# Altium schematic symbol library Schlib1.SchLib: 16 symbols
Pins are listed as number, name and electrical type; pins without a type are passive.

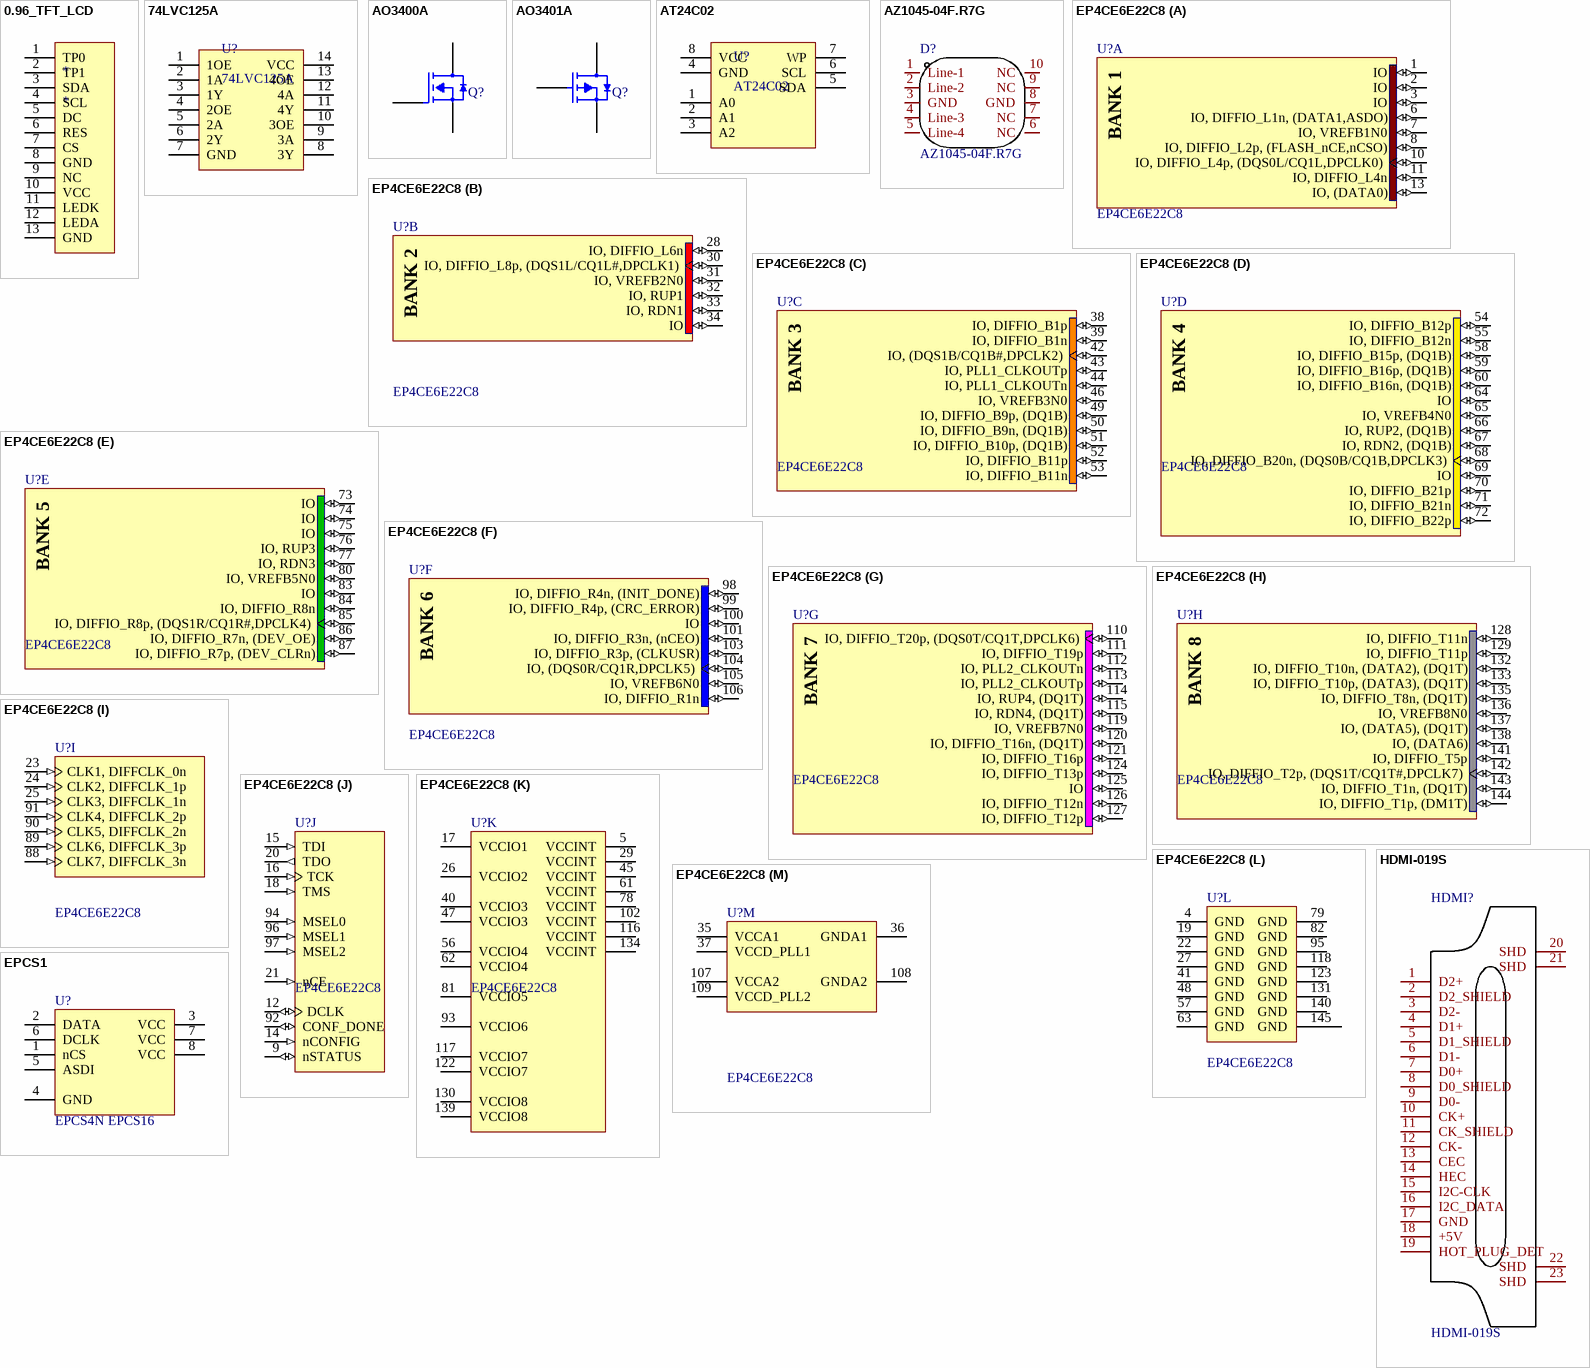
[diagram p0: symbols 0.96_TFT_LCD to HDMI-019S]

## 0.96_TFT_LCD
designator *
footprint 0.78_TFT_LCD
pins: 1 TP0, 2 TP1, 3 SDA, 4 SCL, 5 DC, 6 RES, 7 CS, 8 GND, 9 NC, 10 VCC, 11 LEDK, 12 LEDA, 13 GND

## 74LVC125A
designator U?
footprint TSSOP14_N (5*6.4*1mm（长宽高）)
pins: 1 1OE, 2 1A, 3 1Y, 4 2OE, 5 2A, 6 2Y, 7 GND, 8 3Y, 9 3A, 10 3OE, 11 4Y, 12 4A, 13 4OE, 14 VCC

## AO3400A
designator Q?  (value not drawn)
N-MOS
footprint SOT23-3 (SOT23, 3-Leads, Body 3.1x3.0mm (max), Pitch 0.95mm, IPC Medium Density)
pins: 1 G, 2 S, 3 D

## AO3401A
designator Q?  (value not drawn)
P-MOS
footprint SOT23-3 (SOT23, 3-Leads, Body 3.1x3.0mm (max), Pitch 0.95mm, IPC Medium Density)
pins: 1 G, 2 S, 3 D

## AT24C02
designator U?
footprint SOP8_N (5*6*1.8mm（长宽高）)
pins: 1 A0, 2 A1, 3 A2, 4 GND, 5 SDA, 6 SCL, 7 WP, 8 VCC

## AZ1045-04F.R7G
designator D?
反向截止电压(Vrwm):5V;击穿电压:6V;最大钳位电压:12V;; Manufacturer: AMAZING(晶焱); Add into BOM: yes; Reverse Stand-Off Voltage (Vrwm): 5V; Breakdown Voltage: 6V; Peak Pulse Current (Ipp)@10/1000μs: 3.5A@8/20us; Maximum Clamping Voltage: 12V; Symbol: AZ1045-04F.R7G; Device: AZ1045-04F.R7G; LCSC Part Name: AZ1045-04F.R7G; Supplier Part: C356811; Manufacturer Part: AZ1045-04F.R7G; Supplier Footprint: DFN-10(1x2.5); JLCPCB Part Class: Extended Part; Datasheet: https://atta.szlcsc.com/upload/public/pdf/source/20190802/C356811_0B9EAE80F3B7F983A0CAF91AEAB45A28.pdf; Supplier: LCSC; Convert to PCB: yes; Name: AZ1045-04F.R7G
footprint DFN2510-10_L2.5-W1.0-P0.50-BL
pins: 1 Line-1, 2 Line-2, 3 GND, 4 Line-3, 5 Line-4, 6 NC, 7 NC, 8 GND, 9 NC, 10 NC

## EP4CE6E22C8
designator U?
Cyclone IV Family FPGA, 2V Core, 91 I/O Pins, 2 PLLs, 144-Pin QFP, Speed Grade 8, Commercial Grade; Published: 3-May-2010; DatasheetVersion: ver1.2, Mar-2010; PackageVersion: ver16.0, Dec-2009; PackageReference: EQFP144; Publisher: Altium Limited; PackageDescription: 144-Pin Plastic Enhanced Quad Flat Pack (EQFP144) - Wire Bond; Code_JEDEC: MS-026-BFB; ComponentLink1Description: Manufacturer Link; ComponentLink1URL: http://www.altera.com/; ComponentLink2Description: Handbook; ComponentLink2URL: http://www.altera.com/literature/hb/cyclone-iv/cyclone4-handbook.pdf; ComponentLink3Description: Pinout Specification; ComponentLink3URL: http://www.altera.com/literature/lit-dp.jsp?category=cyc%204&showspreadsheet=y; ComponentLink4Description: Packaging Specification; ComponentLink4URL: http://www.altera.com/literature/ds/dspkg.pdf
footprint EQFP144 20X20_N (144脚，体宽20x20mm，脚距0.5mm)
part A pins: 1 IO (io), 2 IO (io), 3 IO (io), 6 IO, DIFFIO_L1n, (DATA1,ASDO) (io), 7 IO, VREFB1N0 (io), 8 IO, DIFFIO_L2p, (FLASH_nCE,nCSO) (io), 10 IO, DIFFIO_L4p, (DQS0L/CQ1L,DPCLK0) (io), 11 IO, DIFFIO_L4n (io), 13 IO, (DATA0) (io)
part B pins: 28 IO, DIFFIO_L6n (io), 30 IO, DIFFIO_L8p, (DQS1L/CQ1L#,DPCLK1) (io), 31 IO, VREFB2N0 (io), 32 IO, RUP1 (io), 33 IO, RDN1 (io), 34 IO (io)
part C pins: 38 IO, DIFFIO_B1p (io), 39 IO, DIFFIO_B1n (io), 42 IO, (DQS1B/CQ1B#,DPCLK2) (io), 43 IO, PLL1_CLKOUTp (io), 44 IO, PLL1_CLKOUTn (io), 46 IO, VREFB3N0 (io), 49 IO, DIFFIO_B9p, (DQ1B) (io), 50 IO, DIFFIO_B9n, (DQ1B) (io), 51 IO, DIFFIO_B10p, (DQ1B) (io), 52 IO, DIFFIO_B11p (io), 53 IO, DIFFIO_B11n (io)
part D pins: 54 IO, DIFFIO_B12p (io), 55 IO, DIFFIO_B12n (io), 58 IO, DIFFIO_B15p, (DQ1B) (io), 59 IO, DIFFIO_B16p, (DQ1B) (io), 60 IO, DIFFIO_B16n, (DQ1B) (io), 64 IO (io), 65 IO, VREFB4N0 (io), 66 IO, RUP2, (DQ1B) (io), 67 IO, RDN2, (DQ1B) (io), 68 IO, DIFFIO_B20n, (DQS0B/CQ1B,DPCLK3) (io), 69 IO (io), 70 IO, DIFFIO_B21p (io), 71 IO, DIFFIO_B21n (io), 72 IO, DIFFIO_B22p (io)
part E pins: 73 IO (io), 74 IO (io), 75 IO (io), 76 IO, RUP3 (io), 77 IO, RDN3 (io), 80 IO, VREFB5N0 (io), 83 IO (io), 84 IO, DIFFIO_R8n (io), 85 IO, DIFFIO_R8p, (DQS1R/CQ1R#,DPCLK4) (io), 86 IO, DIFFIO_R7n, (DEV_OE) (io), 87 IO, DIFFIO_R7p, (DEV_CLRn) (io)
part F pins: 98 IO, DIFFIO_R4n, (INIT_DONE) (io), 99 IO, DIFFIO_R4p, (CRC_ERROR) (io), 100 IO (io), 101 IO, DIFFIO_R3n, (nCEO) (io), 103 IO, DIFFIO_R3p, (CLKUSR) (io), 104 IO, (DQS0R/CQ1R,DPCLK5) (io), 105 IO, VREFB6N0 (io), 106 IO, DIFFIO_R1n (io)
part G pins: 110 IO, DIFFIO_T20p, (DQS0T/CQ1T,DPCLK6) (io), 111 IO, DIFFIO_T19p (io), 112 IO, PLL2_CLKOUTn (io), 113 IO, PLL2_CLKOUTp (io), 114 IO, RUP4, (DQ1T) (io), 115 IO, RDN4, (DQ1T) (io), 119 IO, VREFB7N0 (io), 120 IO, DIFFIO_T16n, (DQ1T) (io), 121 IO, DIFFIO_T16p (io), 124 IO, DIFFIO_T13p (io), 125 IO (io), 126 IO, DIFFIO_T12n (io), 127 IO, DIFFIO_T12p (io)
part H pins: 128 IO, DIFFIO_T11n (io), 129 IO, DIFFIO_T11p (io), 132 IO, DIFFIO_T10n, (DATA2), (DQ1T) (io), 133 IO, DIFFIO_T10p, (DATA3), (DQ1T) (io), 135 IO, DIFFIO_T8n, (DQ1T) (io), 136 IO, VREFB8N0 (io), 137 IO, (DATA5), (DQ1T) (io), 138 IO, (DATA6) (io), 141 IO, DIFFIO_T5p (io), 142 IO, DIFFIO_T2p, (DQS1T/CQ1T#,DPCLK7) (io), 143 IO, DIFFIO_T1n, (DQ1T) (io), 144 IO, DIFFIO_T1p, (DM1T) (io)
part I pins: 23 CLK1, DIFFCLK_0n (in), 24 CLK2, DIFFCLK_1p (in), 25 CLK3, DIFFCLK_1n (in), 88 CLK7, DIFFCLK_3n (in), 89 CLK6, DIFFCLK_3p (in), 90 CLK5, DIFFCLK_2n (in), 91 CLK4, DIFFCLK_2p (in)
part J pins: 9 nSTATUS (io), 12 DCLK (io), 14 nCONFIG (in), 15 TDI (in), 16 TCK (in), 18 TMS (in), 20 TDO (out), 21 nCE (in), 92 CONF_DONE (io), 94 MSEL0 (in), 96 MSEL1 (in), 97 MSEL2 (in)
part K pins: 5 VCCINT (power), 17 VCCIO1 (power), 26 VCCIO2 (power), 29 VCCINT (power), 40 VCCIO3 (power), 45 VCCINT (power), 47 VCCIO3 (power), 56 VCCIO4 (power), 61 VCCINT (power), 62 VCCIO4 (power), 78 VCCINT (power), 81 VCCIO5 (power), 93 VCCIO6 (power), 102 VCCINT (power), 116 VCCINT (power), 117 VCCIO7 (power), 122 VCCIO7 (power), 130 VCCIO8 (power), 134 VCCINT (power), 139 VCCIO8 (power)
part L pins: 4 GND (power), 19 GND (power), 22 GND (power), 27 GND (power), 41 GND (power), 48 GND (power), 57 GND (power), 63 GND (power), 79 GND (power), 82 GND (power), 95 GND (power), 118 GND (power), 123 GND (power), 131 GND (power), 140 GND (power), 145 GND
part M pins: 35 VCCA1 (power), 36 GNDA1 (power), 37 VCCD_PLL1 (power), 107 VCCA2 (power), 108 GNDA2 (power), 109 VCCD_PLL2 (power)
part A text: BANK 1
part B text: BANK 2
part C text: BANK 3
part D text: BANK 4
part E text: BANK 5
part F text: BANK 6
part G text: BANK 7
part H text: BANK 8

## EPCS1
designator U?, comment EPCS4N EPCS16
footprint SOP8_M (5*6*1.8mm（长宽高）)
pins: 1 nCS, 2 DATA, 3 VCC, 4 GND, 5 ASDI, 6 DCLK, 7 VCC, 8 VCC

## HDMI-019S
designator HDMI?
连接器类型:HDMI;公母:母;总PIN位数:19;排数:-;安装方式:卧贴;额定电流:500mA;工作温度范围:-25℃~+75℃;; Manufacturer: SOFNG(硕方); Add into BOM: yes; Connector Type: HDMI; Gender: 母; Current Rating (Max): 500mA; Symbol: HDMI-019S; Device: HDMI-019S; LCSC Part Name: HDMI 母 P数:19; Supplier Part: C111617; Manufacturer Part: HDMI-019S; Supplier Footprint: SMD; JLCPCB Part Class: Extended Part; Datasheet: https://atta.szlcsc.com/upload/public/pdf/source/20200911/C111617_84DD1BD35B9EB8A28224A63520745D0A.pdf; Supplier: LCSC; Convert to PCB: yes; Number of Pins: 19; Number of Rows: -; Mounting Style: 卧贴; Operating Temperature Range: -25℃~+75℃; Name: HDMI-019S
footprint HDMI-SMD_HDMI-019S
pins: 1 D2+, 2 D2_SHIELD, 3 D2-, 4 D1+, 5 D1_SHIELD, 6 D1-, 7 D0+, 8 D0_SHIELD, 9 D0-, 10 CK+, 11 CK_SHIELD, 12 CK-, 13 CEC, 14 HEC, 15 I2C-CLK, 16 I2C_DATA, 17 GND, 18 +5V, 19 HOT_PLUG_DET, 20 SHD, 21 SHD, 22 SHD, 23 SHD

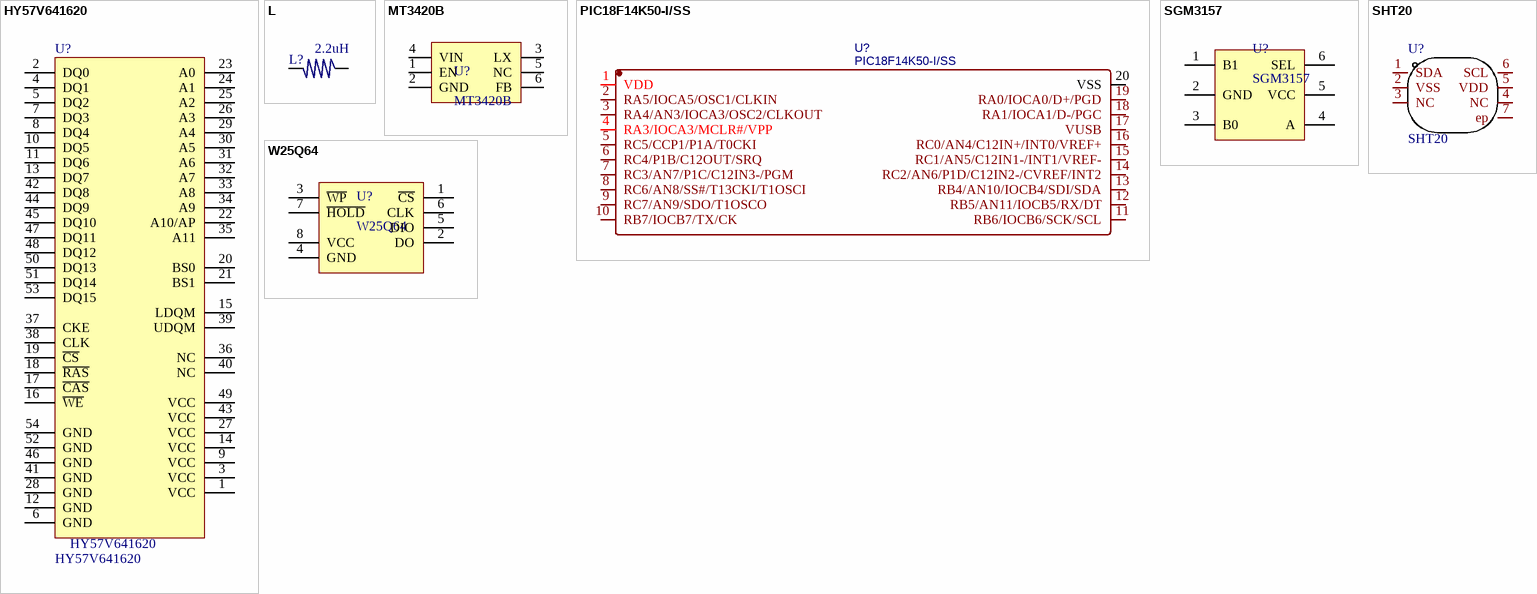
[diagram p1: symbols HY57V641620 to W25Q64]

## HY57V641620
designator U?
footprint TSOP-54_L22.2-W10.2-P0.80-LS11.8-BL
pins: 1 VCC (power), 2 DQ0, 3 VCC (power), 4 DQ1, 5 DQ2, 6 GND (power), 7 DQ3, 8 DQ4, 9 VCC (power), 10 DQ5, 11 DQ6, 12 GND (power), 13 DQ7, 14 VCC (power), 15 LDQM (power), 16 ~{WE} (power), 17 ~{CAS} (power), 18 ~{RAS} (power), 19 ~{CS}, 20 BS0 (power), 21 BS1 (power), 22 A10/AP (power), 23 A0 (power), 24 A1 (power), 25 A2 (power), 26 A3 (power), 27 VCC (power), 28 GND (power), 29 A4 (power), 30 A5 (power), 31 A6 (power), 32 A7 (power), 33 A8 (power), 34 A9 (power), 35 A11 (power), 36 NC (power), 37 CKE, 38 CLK, 39 UDQM (power), 40 NC (power), 41 GND (power), 42 DQ8, 43 VCC (power), 44 DQ9, 45 DQ10, 46 GND (power), 47 DQ11, 48 DQ12, 49 VCC (power), 50 DQ13, 51 DQ14, 52 GND (power), 53 DQ15, 54 GND (power)

## L
designator L?, comment 2.2uH
footprint NR3015 (3mm*3mm*1.5mm(长*宽*高）)
pins: 1, 2

## MT3420B
designator U?
DCDC
footprint SOT23-6L (3x1.6x1.1mm(长宽高))
pins: 1 EN, 2 GND, 3 LX, 4 VIN, 5 NC, 6 FB

## PIC18F14K50-I/SS
designator U?
BOM_Manufacturer: MICROCHIP; BOM_Supplier: LCSC; BOM_Manufacturer Part: PIC18F14K50-I/SS; BOM_Supplier Part: C12460; BOM_JLCPCB Part Class: Extended Part; spicePre: U; spiceSymbolName: PIC18F14K50-I/SS
footprint SSOP20_L (7.2*7.8*1.6（长宽高）)
pins: 1 VDD, 2 RA5/IOCA5/OSC1/CLKIN, 3 RA4/AN3/IOCA3/OSC2/CLKOUT, 4 RA3/IOCA3/MCLR#/VPP, 5 RC5/CCP1/P1A/T0CKI, 6 RC4/P1B/C12OUT/SRQ, 7 RC3/AN7/P1C/C12IN3-/PGM, 8 RC6/AN8/SS#/T13CKI/T1OSCI, 9 RC7/AN9/SDO/T1OSCO, 10 RB7/IOCB7/TX/CK, 11 RB6/IOCB6/SCK/SCL, 12 RB5/AN11/IOCB5/RX/DT, 13 RB4/AN10/IOCB4/SDI/SDA, 14 RC2/AN6/P1D/C12IN2-/CVREF/INT2, 15 RC1/AN5/C12IN1-/INT1/VREF-, 16 RC0/AN4/C12IN+/INT0/VREF+, 17 VUSB, 18 RA1/IOCA1/D-/PGC, 19 RA0/IOCA0/D+/PGD, 20 VSS

## SGM3157
designator U?
模拟开关
footprint SC-70-6_L2.2-W1.3-P0.65-LS2.2-BR
pins: 1 B1, 2 GND, 3 B0, 4 A, 5 VCC, 6 SEL

## SHT20
designator U?
I2C接口，数字式温湿度传感器，电压范围: 2.1至3.6 V; Manufacturer: Sensirion(瑞士盛思锐); Add into BOM: yes; Symbol: SHT20; Device: SHT20; LCSC Part Name: SHT20; Supplier Part: C53865; Manufacturer Part: SHT20; Supplier Footprint: DFN-6-EP(3x3); JLCPCB Part Class: Extended Part; Datasheet: https://atta.szlcsc.com/upload/public/pdf/source/20151012/1457707445424.pdf; Supplier: LCSC; Convert to PCB: yes; Name: SHT20
footprint DFN-6_L3.0-W3.0-P0.95-TR-EP
pins: 1 SDA, 2 VSS, 3 NC, 4 NC, 5 VDD, 6 SCL, 7 ep

## W25Q64
designator U?
footprint SOP8W_N (5.3*8.3*1.8mm（长宽高）)
pins: 1 ~{CS}, 2 DO, 3 ~{WP}, 4 GND, 5 DIO, 6 CLK, 7 ~{HOLD}, 8 VCC